# Altium schematic symbol library IND108W.SchLib: 1 symbol
Pins are listed as number, name and electrical type; pins without a type are passive.

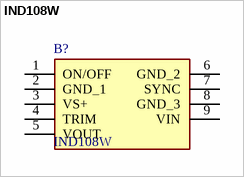
[diagram p0: symbol IND108W]

## IND108W
designator B?
Non-Isolated DC/DC Converters 12Vin 3-9V 108W 12A Neg Log SMT 33 mm x 13.46 mm x 10 mm; Manufacturer_Name: OmniOn Power; Geometry.Height: 10mm; Manufacturer_Part_Number: IND108W; Mouser Part Number: *; Mouser Price/Stock: *; Arrow Part Number: *; Arrow Price/Stock: *; Datasheet Link: https://www.omnionpower.com/assets/pdfs/windchill/data-sheet/ind108w_ds.pdf?nocache=1710831926
footprint IND108W
pins: 1 ON/OFF, 2 GND_1, 3 VS+, 4 TRIM, 5 VOUT, 6 GND_2, 7 SYNC, 8 GND_3, 9 VIN